# Altium schematic symbol library Schematic_lib.SchLib: 43 symbols
Pins are listed as number, name and electrical type; pins without a type are passive.

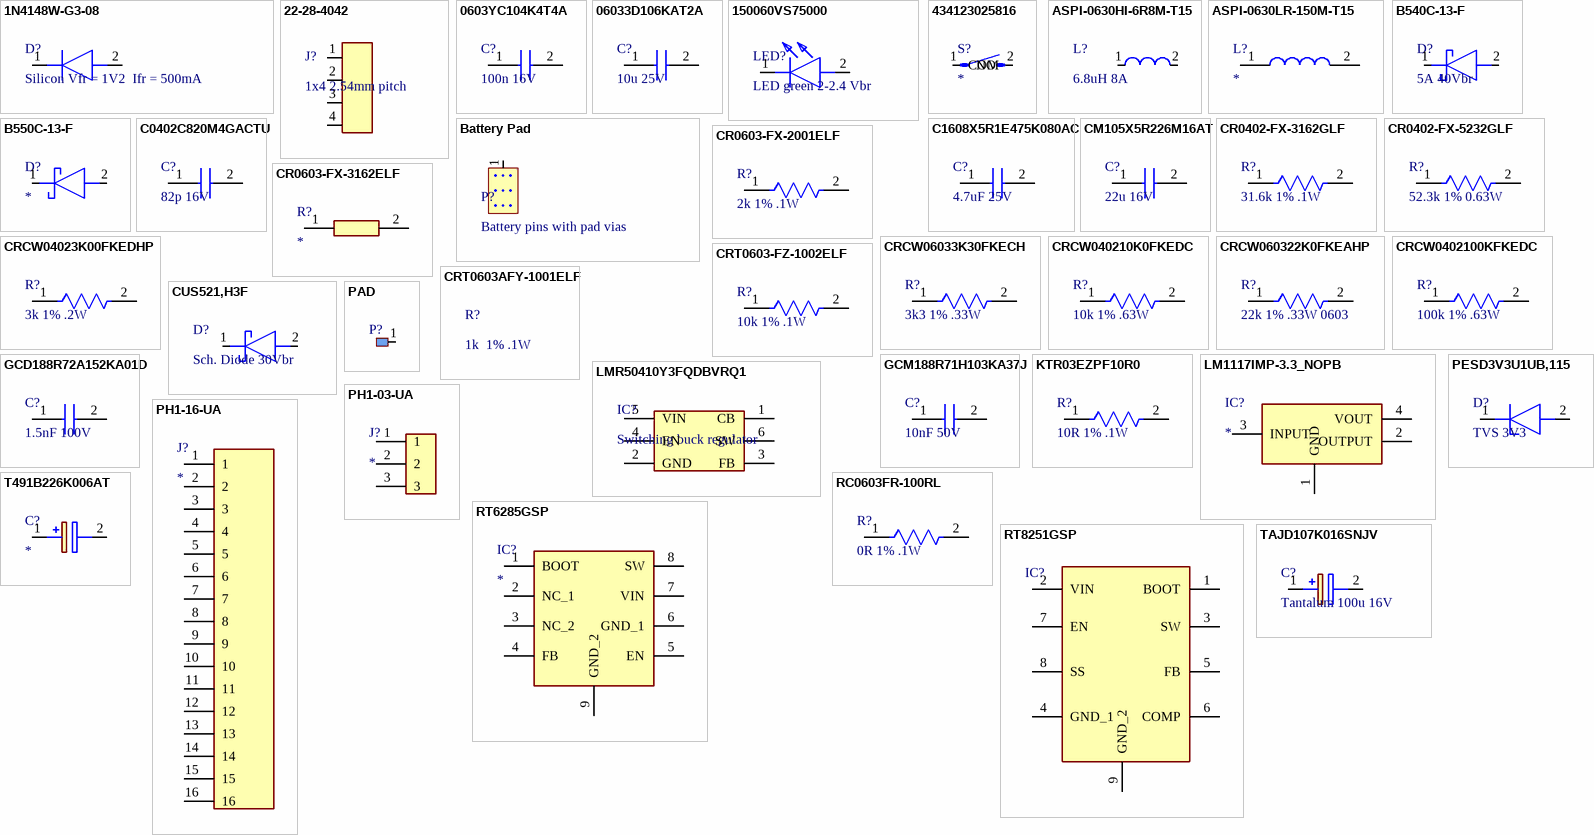
[diagram p0: symbols 1N4148W-G3-08 to TAJD107K016SNJV]

## 1N4148W-G3-08
designator D?, comment Silicon Vfr = 1V2  Ifr = 500mA
Diode - Silicon Vfr = 1V2, Vbr = 100V, Ifr = 500mA; Manufacturer_Name: Vishay; Manufacturer_Part_Number: 1N4148W-G3-08; Datasheet Link: https://componentsearchengine.com/Datasheets/1/1N4148W-G3-08.pdf; Height: 1.35mm; Mouser Part Number: 78-1N4148W-G3-08; Mouser Price/Stock: https://www.mouser.co.uk/ProductDetail/Vishay-Semiconductors/1N4148W-G3-08?qs=uS%252BVSIFnvp46StDBB15x4Q%3D%3D; Arrow Part Number: 1N4148W-G3-08; Arrow Price/Stock: https://www.arrow.com/en/products/1n4148w-g3-08/vishay
footprint SOD3716X135N
pins: 1 K, 2 A

## 22-28-4042
designator J?, comment 1x4 2.54mm pitch
Connector 1x4 / 2.54mm pitch / Through Hole straight; Manufacturer_Name: Molex; Datasheet Link: https://www.molex.com/content/dam/molex/molex-dot-com/products/automated/en-us/salesdrawingpdf/423/42375/022284042_sd.pdf?inline; Height: 10.03mm; Manufacturer_Part_Number: 22-28-4042; Mouser Part Number: 538-22-28-4042; Mouser Price/Stock: https://www.mouser.co.uk/ProductDetail/Molex/22-28-4042?qs=GAPJcf4kvdu6DqYOOlzdaQ%3D%3D
footprint HDRV4W66P0X254_1X4_1016X249X1003P
pins: 1, 2, 3, 4

## 0603YC104K4T4A
designator C?, comment 100n 16V
100nF 0603 16V; Manufacturer_Name: Kyocera AVX; Manufacturer_Part_Number: 0603YC104K4T4A; Datasheet Link: https://componentsearchengine.com/Datasheets/1/06031A100FAT2A.pdf; Height: 0.9mm; Mouser Part Number: 581-0603YC104K4T4A; Mouser Price/Stock: https://www.mouser.co.uk/ProductDetail/KYOCERA-AVX/0603YC104K4T4A?qs=Cej1j9ztgjEkPqVJkA4Bng%3D%3D; Arrow Part Number: 0603YC104K4T4A; Arrow Price/Stock: https://www.arrow.com/en/products/0603yc104k4t4a/avx
footprint CAPC1608X90N
pins: 1, 2

## 06033D106KAT2A
designator C?, comment 10u 25V
Cap. Ceramic 10uF 25V 10%; Manufacturer_Name: Kyocera AVX; Manufacturer_Part_Number: 06033D106KAT2A; Datasheet Link: https://componentsearchengine.com/Datasheets/1/06031A100FAT2A.pdf; Height: 0.9mm; Mouser Part Number: 581-06033D106KAT2A; Mouser Price/Stock: https://www.mouser.co.uk/ProductDetail/KYOCERA-AVX/06033D106KAT2A?qs=iLbezkQI%252BsjjhfqLL0ayMQ%3D%3D; Arrow Part Number: 06033D106KAT2A; Arrow Price/Stock: https://www.arrow.com/en/products/06033d106kat2a/avx?region=nac
footprint CAPC1608X90N
pins: 1, 2

## 150060VS75000
designator LED?, comment LED green 2-2.4 Vbr
Manufacturer_Name: Wurth Elektronik; Manufacturer_Part_Number: 150060VS75000; Datasheet Link: https://componentsearchengine.com/Datasheets/2/150060VS75000.pdf; Height: 0.8mm; Mouser Part Number: 710-150060VS75000; Mouser Price/Stock: https://www.mouser.co.uk/ProductDetail/Wurth-Elektronik/150060VS75000?qs=LlUlMxKIyB1Q1Bi5mQ%2FKLw%3D%3D
footprint LEDC1608X80N
pins: 1 K, 2 A

## 434123025816
designator S?
Switch; Manufacturer_Name: Wurth Elektronik; Manufacturer_Part_Number: 434123025816; Datasheet Link: https://www.we-online.com/catalog/datasheet/434123025816.pdf; Height: 2.65mm; Mouser Part Number: 710-434123025816; Mouser Price/Stock: https://www.mouser.co.uk/ProductDetail/Wurth-Elektronik/434123025816?qs=wr8lucFkNMVuWki%252Ba3C7oA%3D%3D
footprint 434123025816
pins: 1 COM, 2 NO

## ASPI-0630HI-6R8M-T15
designator L?, comment 6.8uH 8A
6.8uH 8A inductor; Manufacturer_Name: ABRACON; Manufacturer_Part_Number: ASPI-0630HI-6R8M-T15; Datasheet Link: https://abracon.com/Magnetics/power/ASPI-0630HI.pdf; Height: 3mm; Mouser Part Number: 815-ASPI0630HI6R8T15; Mouser Price/Stock: https://www.mouser.co.uk/ProductDetail/ABRACON/ASPI-0630HI-6R8M-T15?qs=bWAYEm3xoCZIcBmGvLdO%2Fw%3D%3D; Arrow Part Number: ASPI-0630HI-6R8M-T15; Arrow Price/Stock: https://www.arrow.com/en/products/aspi-0630hi-6r8m-t15/abracon?region=nac
footprint INDPM7266X300N
pins: 1, 2

## ASPI-0630LR-150M-T15
designator L?
Inductor; Manufacturer_Name: ABRACON; Manufacturer_Part_Number: ASPI-0630LR-150M-T15; Datasheet Link: https://abracon.com/Magnetics/power/ASPI-0630LR.pdf; Height: 3mm; Mouser Part Number: 815-ASPI0630LR150T15; Mouser Price/Stock: https://www.mouser.co.uk/ProductDetail/ABRACON/ASPI-0630LR-150M-T15?qs=bWAYEm3xoCYKmwZKzI2%2F7Q%3D%3D; Arrow Part Number: ASPI-0630LR-150M-T15; Arrow Price/Stock: https://www.arrow.com/en/products/aspi-0630lr-150m-t15/abracon?region=nac
footprint INDPM7266X300N
pins: 1, 2

## B540C-13-F
designator D?, comment 5A 40Vbr
5A 40Vbr Schotkky diode; Manufacturer_Name: Diodes Incorporated; Manufacturer_Part_Number: B540C-13-F; Datasheet Link: https://componentsearchengine.com/Datasheets/2/B540C-13-F.pdf; Height: 2.5mm; Mouser Part Number: 621-B540C-F; Mouser Price/Stock: https://www.mouser.co.uk/ProductDetail/Diodes-Incorporated/B540C-13-F?qs=v2dnQLbuoRZXHN%2FK4ft5%252Bg%3D%3D; Arrow Part Number: B540C-13-F; Arrow Price/Stock: https://www.arrow.com/en/products/b540c-13-f/diodes-incorporated?region=nac
footprint DIOM7959X250N
pins: 1 K, 2 A

## B550C-13-F
designator D?
Diode; Manufacturer_Name: Diodes Incorporated; Manufacturer_Part_Number: B550C-13-F; Datasheet Link: https://www.mouser.com/ds/2/115/ds13012-1142526.pdf; Height: 2.5mm; Mouser Part Number: 621-B550C-F; Mouser Price/Stock: https://www.mouser.co.uk/ProductDetail/Diodes-Incorporated/B550C-13-F?qs=UEP5Ic6BRave1jzuZzz4FA%3D%3D; Arrow Part Number: B550C-13-F; Arrow Price/Stock: https://www.arrow.com/en/products/b550c-13-f/diodes-incorporated?utm_currency=USD&region=nac
footprint DIOM7959X250N
pins: 1 K, 2 A

## Battery Pad
designator P?, comment Battery pins with pad vias
footprint Battery Pad
pins: 1

## C0402C820M4GACTU
designator C?, comment 82p 16V
82pF 16V; Manufacturer_Name: KEMET; Manufacturer_Part_Number: C0402C820M4GACTU; Datasheet Link: https://content.kemet.com/datasheets/KEM_C1002_X7R_SMD.pdf; Height: 0.55mm
footprint C0402C104J4RACTU
pins: 1, 2

## C1608X5R1E475K080AC
designator C?, comment 4.7uF 25V
4.7uF 25V 10% X5R; Manufacturer_Name: TDK; Manufacturer_Part_Number: C1608X5R1E475K080AC; Datasheet Link: https://product.tdk.com/info/en/catalog/datasheets/mlcc_commercial_midvoltage_en.pdf; Height: 0.8mm; Mouser Part Number: 810-C1608X5R1E475K; Mouser Price/Stock: https://www.mouser.co.uk/ProductDetail/TDK/C1608X5R1E475K080AC?qs=dfay7wIA1uHUGZGvnFtOyQ%3D%3D; Arrow Part Number: C1608X5R1E475K080AC; Arrow Price/Stock: https://www.arrow.com/en/products/c1608x5r1e475k080ac/tdk?region=nac
footprint CAPC1608X80N
pins: 1, 2

## CM105X5R226M16AT
designator C?, comment 22u 16V
22uF 16V 0603 ceramic capacitor; Manufacturer_Name: Kyocera AVX; Manufacturer_Part_Number: CM105X5R226M16AT; Datasheet Link: https://www.mouser.de/datasheet/2/40/Kyocera_AVX_Components_CT_Series_e-2933596.pdf; Height: 1mm; Mouser Part Number: 581-CM105X5R226M16AT; Mouser Price/Stock: https://www.mouser.co.uk/ProductDetail/KYOCERA-AVX/CM105X5R226M16AT?qs=MyNHzdoqoQKX6cMyStcF%2FA%3D%3D
footprint CAPC1608X100N
pins: 1, 2

## CR0402-FX-3162GLF
designator R?, comment 31.6k 1% .1W
31.6k 1% .1W 0402 resistor; Manufacturer_Name: Bourns; Manufacturer_Part_Number: CR0402-FX-3162GLF; Datasheet Link: https://www.bourns.com/pdfs/CR0402.pdf; Height: 0.4mm
footprint RESC1005X40N
pins: 1, 2

## CR0402-FX-5232GLF
designator R?, comment 52.3k 1% 0.63W
52.3k 1% 0402  0.63W resistor; Manufacturer_Name: Bourns; Manufacturer_Part_Number: CR0402-FX-5232GLF; Datasheet Link: https://www.bourns.com/pdfs/CR0402.pdf; Height: 0.4mm; Mouser Part Number: 652-CR0402FX5232GLF; Mouser Price/Stock: https://www.mouser.com/Search/Refine.aspx?Keyword=652-CR0402FX5232GLF
footprint RESC1005X40N
pins: 1, 2

## CR0603-FX-2001ELF
designator R?, comment 2k 1% .1W
2k resistor 1% 1/10W 0603; Manufacturer_Name: Bourns; Manufacturer_Part_Number: CR0603-FX-2001ELF; Datasheet Link: https://www.bourns.com/pdfs/chpreztr.pdf; Height: 0.55mm; Mouser Part Number: 652-CR0603-FX-2001LF; Mouser Price/Stock: https://www.mouser.co.uk/ProductDetail/Bourns/CR0603-FX-2001ELF?qs=zx2075yZkZINSjnn4ZdNIQ%3D%3D; Arrow Part Number: CR0603-FX-2001ELF; Arrow Price/Stock: https://www.arrow.com/en/products/cr0603-fx-2001elf/bourns?region=nac
footprint RESC1608X55N
pins: 1, 2

## CR0603-FX-3162ELF
designator R?
Resistor; Manufacturer_Name: Bourns; Manufacturer_Part_Number: CR0603-FX-3162ELF; Datasheet Link: https://www.bourns.com/pdfs/chpreztr.pdf; Height: 0.55mm; Mouser Part Number: 652-CR0603FX-3162ELF; Mouser Price/Stock: https://www.mouser.com/Search/Refine.aspx?Keyword=652-CR0603FX-3162ELF
footprint RESC1608X55N
pins: 1, 2

## CRCW04023K00FKEDHP
designator R?, comment 3k 1% .2W
3k 1% .2W resistor 0402 package; Manufacturer_Name: Vishay; Manufacturer_Part_Number: CRCW04023K00FKEDHP; Datasheet Link: http://www.vishay.com/docs/20035/dcrcwe3.pdf; Height: 0.4mm; Arrow Part Number: CRCW04023K00FKEDHP; Arrow Price/Stock: https://www.arrow.com/en/products/crcw04023k00fkedhp/vishay?region=nac
footprint RESC1005X40N
pins: 1, 2

## CRCW06033K30FKECH
designator R?, comment 3k3 1% .33W
3K3 1% 0603 330mW
footprint CRCW06033K30FKECH (resistor 3.3k 0604 1% 330mW)
pins: 1, 2

## CRCW040210K0FKEDC
designator R?, comment 10k 1% .63W
10k 1% 0402 .63W resistor; Manufacturer_Name: Vishay; Manufacturer_Part_Number: CRCW040210K0FKEDC; Datasheet Link: https://rs.componentsearchengine.com/Datasheets/2/CRCW040210K0FKEDC.pdf; Height: 0.35mm; Mouser Part Number: 71-CRCW040210K0FKEDC; Mouser Price/Stock: https://www.mouser.co.uk/ProductDetail/Vishay-Dale/CRCW040210K0FKEDC?qs=E3Y5ESvWgWPiNLcGzwCGPg%3D%3D; Arrow Part Number: CRCW040210K0FKEDC; Arrow Price/Stock: https://www.arrow.com/en/products/crcw040210k0fkedc/vishay?utm_currency=USD&region=nac
footprint RESC1005X40N
pins: 1, 2

## CRCW060322K0FKEAHP
designator R?, comment 22k 1% .33W 0603
22k 1% .33W 0603 resistor; Manufacturer_Name: Vishay; Manufacturer_Part_Number: CRCW060322K0FKEAHP; Datasheet Link: https://www.vishay.com/docs/20043/crcwhpe3.pdf; Height: 0.55mm; Mouser Part Number: 71-CRCW060322K0FKEAH; Mouser Price/Stock: https://www.mouser.co.uk/ProductDetail/Vishay-Dale/CRCW060322K0FKEAHP?qs=40TFAHZMFvftIYgKiSStSQ%3D%3D; Arrow Part Number: CRCW060322K0FKEAHP; Arrow Price/Stock: https://www.arrow.com/en/products/crcw060322k0fkeahp/vishay?region=nac
footprint RESC1608X55N
pins: 1, 2

## CRCW0402100KFKEDC
designator R?, comment 100k 1% .63W
100k 1% .63W 0402; Manufacturer_Name: Vishay; Manufacturer_Part_Number: CRCW0402100KFKEDC; Datasheet Link: http://www.vishay.com/docs/28773/crcwce3.pdf; Height: 0.35mm; Mouser Part Number: 71-CRCW0402100KFKEDC; Mouser Price/Stock: https://www.mouser.co.uk/ProductDetail/Vishay-Dale/CRCW0402100KFKEDC?qs=E3Y5ESvWgWPiKlL6PvtQMQ%3D%3D; Arrow Part Number: CRCW0402100KFKEDC; Arrow Price/Stock: https://www.arrow.com/en/products/crcw0402100kfkedc/vishay?utm_currency=USD&region=nac
footprint RESC1005X35N
pins: 1, 2

## CRT0603-FZ-1002ELF
designator R?, comment 10k 1% .1W
10k Resistor 1% 1/10W 0603; Manufacturer_Name: Bourns; Manufacturer_Part_Number: CRT0603-FZ-1002ELF; Datasheet Link: https://componentsearchengine.com/Datasheets/1/CRT0603-FZ-1002ELF.pdf; Height: 0.6mm; Mouser Part Number: 652-CRT0603FZ1002ELF; Mouser Price/Stock: https://www.mouser.com/Search/Refine.aspx?Keyword=652-CRT0603FZ1002ELF; Arrow Part Number: CRT0603-FZ-1002ELF; Arrow Price/Stock: https://www.arrow.com/en/products/crt0603-fz-1002elf/bourns
footprint RESC1608X60N
pins: 1, 2

## CRT0603AFY-1001ELF
designator R?, comment 1k  1% .1W
1k Resistor 1% 1/10W 0603; Manufacturer_Name: Bourns; Manufacturer_Part_Number: CRT0603AFY-1001ELF; Datasheet Link: https://www.bourns.com/docs/Product-Datasheets/CRT-A.pdf; Height: 0.55mm
footprint RESC1608X55N

## CUS521,H3F
designator D?, comment Sch. Diode 30Vbr
Manufacturer_Name: Toshiba; Manufacturer_Part_Number: CUS521,H3F; Datasheet Link: http://toshiba.semicon-storage.com/info/docget.jsp?did=8859&prodName=CUS521; Height: 1mm; Mouser Part Number: 757-CUS521H3F; Mouser Price/Stock: https://www.mouser.co.uk/ProductDetail/Toshiba/CUS521H3F?qs=OLJpxlzHOSRzvzvrwLzYuQ%3D%3D; Arrow Part Number: CUS521,H3F; Arrow Price/Stock: https://www.arrow.com/en/products/cus521h3f/toshiba?region=nac
footprint 1SS357TPH3F
pins: 1 K, 2 A

## GCD188R72A152KA01D
designator C?, comment 1.5nF 100V
1.5nF 100V ceramic; Manufacturer_Name: Murata Electronics; Manufacturer_Part_Number: GCD188R72A152KA01D; Datasheet Link: https://psearch.en.murata.com/capacitor/product/GCD188R72A152KA01%23.html; Height: 0.9mm; Mouser Part Number: 81-GCD188R72A152KA1D; Mouser Price/Stock: https://www.mouser.com/Search/Refine.aspx?Keyword=81-GCD188R72A152KA1D
footprint CAPC1608X90N
pins: 1, 2

## GCM188R71H103KA37J
designator C?, comment 10nF 50V
10nF 50V 0603; Manufacturer_Name: Murata Electronics; Manufacturer_Part_Number: GCM188R71H103KA37J; Datasheet Link: https://psearch.en.murata.com/capacitor/product/GCM188R71H103KA37%23.pdf; Height: 0.9mm; Mouser Part Number: 81-GCM188R71H103KA7J; Mouser Price/Stock: https://www.mouser.co.uk/ProductDetail/Murata-Electronics/GCM188R71H103KA37J?qs=N3Kl9KD794T3%2FxlXdF0Axg%3D%3D; Arrow Part Number: GCM188R71H103KA37J; Arrow Price/Stock: https://www.arrow.com/en/products/gcm188r71h103ka37j/murata-manufacturing?region=nac
footprint CAPC1608X90N
pins: 1, 2

## KTR03EZPF10R0
designator R?, comment 10R 1% .1W
10R 0603 1%; Manufacturer_Name: ROHM Semiconductor; Manufacturer_Part_Number: KTR03EZPF10R0; Datasheet Link: http://rohmfs.rohm.com/en/products/databook/datasheet/passive/resistor/chip_resistor/ktr.pdf; Height: 0.55mm; Mouser Part Number: 755-KTR03EZPF10R0; Mouser Price/Stock: https://www.mouser.co.uk/ProductDetail/ROHM-Semiconductor/KTR03EZPF10R0?qs=Z4wLSx0Y7o6aTc4EM6rn5w%3D%3D
footprint RESC1608X55N
pins: 1, 2

## LM1117IMP-3.3_NOPB
designator IC?
3V3 Linear regulator; Manufacturer_Name: Texas Instruments; Manufacturer_Part_Number: LM1117IMP-3.3/NOPB; Datasheet Link: https://www.ti.com/lit/ds/symlink/lm1117.pdf?ts=1607578196475&ref_url=https%253A%252F%252Fwww.google.com%252F; Height: 1.8mm; Mouser Part Number: 926-LM1117IMP3.3NOPB; Mouser Price/Stock: https://www.mouser.co.uk/ProductDetail/Texas-Instruments/LM1117IMP-3.3-NOPB?qs=X1J7HmVL2ZFbpN1TgOsjYQ%3D%3D; Arrow Part Number: LM1117IMP-3.3/NOPB; Arrow Price/Stock: https://www.arrow.com/en/products/lm1117imp-3.3nopb/texas-instruments?utm_currency=USD&region=nac; Supplier 1: Mouser; Supplier Part Number 1: 926-LM1117IMP3.3NOPB
footprint SOT230P700X180-4N
pins: 1 GND, 2 OUTPUT, 3 INPUT, 4 VOUT

## LMR50410Y3FQDBVRQ1
designator IC?, comment Switching buck regulator
Manufacturer_Name: Texas Instruments; Manufacturer_Part_Number: LMR50410Y3FQDBVRQ1; Datasheet Link: https://www.ti.com/lit/ds/symlink/lmr50410-q1.pdf?ts=1611309677669; Height: 1.45mm; Mouser Part Number: 595-R50410Y3FQDBVRQ1; Mouser Price/Stock: https://www.mouser.co.uk/ProductDetail/Texas-Instruments/LMR50410Y3FQDBVRQ1?qs=81r%252BiQLm7BTaIXwCgdOuiA%3D%3D; Arrow Part Number: LMR50410Y3FQDBVRQ1; Arrow Price/Stock: https://www.arrow.com/en/products/lmr50410y3fqdbvrq1/texas-instruments?utm_currency=USD&region=europe
footprint SOT95P280X145-6N
pins: 1 CB, 2 GND, 3 FB, 4 EN, 5 VIN, 6 SW

## PAD
designator P?, comment soldering pad  (value not drawn)
footprint SOLDERING PAD (self-made soldering pad footprint. This is my alternative to goldpin connectors.)
pins: 1

## PESD3V3U1UB,115
designator D?, comment TVS 3V3
TVS diode 3V3 0402; Manufacturer_Name: Nexperia; Manufacturer_Part_Number: PESD3V3U1UB,115; Datasheet Link: https://assets.nexperia.com/documents/data-sheet/PESD3V3U1UB.pdf; Height: 0.65mm; Mouser Part Number: 771-PESD3V3U1UB-T/R; Mouser Price/Stock: https://www.mouser.co.uk/ProductDetail/Nexperia/PESD3V3U1UB115?qs=LOCUfHb8d9uLhBP9O5uXGg%3D%3D; Arrow Part Number: PESD3V3U1UB,115; Arrow Price/Stock: https://www.arrow.com/en/products/pesd3v3u1ub115/nexperia?region=nac
footprint PESD3V3U1UB115
pins: 1 K, 2 A

## PH1-03-UA
designator J?
Connector; Manufacturer_Name: Adam Tech; Manufacturer_Part_Number: PH1-03-UA; Datasheet Link: https://datasheet.datasheetarchive.com/originals/distributors/Datasheets_SAMA/34c52fbb4019bb4b288b881302863af3.pdf; Height: 9.516mm; Mouser Part Number: 737-PH1-03-UA; Mouser Price/Stock: https://www.mouser.co.uk/ProductDetail/Adam-Tech/PH1-03-UA?qs=HoCaDK9Nz5cktq3WKneQTQ%3D%3D; Arrow Part Number: PH1-03-UA; Arrow Price/Stock: https://www.arrow.com/en/products/ph1-03-ua/adam-tech?region=nac
footprint HDRV3W64P0X254_1X3_762X250X952P
pins: 1, 2, 3

## PH1-16-UA
designator J?
Connector; Manufacturer_Name: Adam Tech; Manufacturer_Part_Number: PH1-16-UA; Datasheet Link: https://www.arrow.com/en/products/ph1-16-ua/adam-tech; Height: 8.469mm; Mouser Part Number: 737-PH1-16-UA; Mouser Price/Stock: https://www.mouser.co.uk/ProductDetail/Adam-Tech/PH1-16-UA?qs=HoCaDK9Nz5fBNONrMDWJKA%3D%3D; Arrow Part Number: PH1-16-UA; Arrow Price/Stock: null?region=nac
footprint HDRV16W64P0X254_1X16_4064X250X847P
pins: 1, 2, 3, 4, 5, 6, 7, 8, 9, 10, 11, 12, 13, 14, 15, 16

## RC0603FR-100RL
designator R?, comment 0R 1% .1W
0R 1% .1W 0603 resistor; Manufacturer_Name: YAGEO; Manufacturer_Part_Number: RC0603FR-100RL; Datasheet Link: https://www.yageo.com/upload/media/product/products/datasheet/rchip/PYu-RC_Group_51_RoHS_L_12.pdf; Height: 0.55mm; Mouser Part Number: 603-RC0603FR-100RL; Mouser Price/Stock: https://www.mouser.co.uk/ProductDetail/YAGEO/RC0603FR-100RL?qs=gY0y7AQI9SNjcfwXbqIKbg%3D%3D
footprint RESC1608X55N
pins: 1, 2

## RT6285GSP
designator IC?
Integrated Circuit; Manufacturer_Name: RICHTEK; Manufacturer_Part_Number: RT6285GSP; Datasheet Link: https://www.richtek.com/assets/product_file/RT6285/DS6285-00.pdf; Height: 1.753mm; Mouser Part Number: 835-RT6285GSP; Mouser Price/Stock: https://www.mouser.co.uk/ProductDetail/Richtek/RT6285GSP?qs=amGC7iS6iy9ag0U80PgEbw%3D%3D
footprint SOIC127P600X175-9N
pins: 1 BOOT, 2 NC_1, 3 NC_2, 4 FB, 5 EN, 6 GND_1, 7 VIN, 8 SW, 9 GND_2

## RT8251GSP
designator IC?
Switching buck regulator 5A; Manufacturer_Name: RICHTEK; Manufacturer_Part_Number: RT8251GSP; Datasheet Link: https://www.richtek.com/assets/product_file/RT8251/DS8251-04.pdf; Height: 1.753mm; Mouser Part Number: 835-RT8251GSP; Mouser Price/Stock: https://www.mouser.co.uk/ProductDetail/Richtek/RT8251GSP?qs=amGC7iS6iy8jENgjmtkz5g%3D%3D
footprint SOIC127P600X175-9N
pins: 1 BOOT, 2 VIN, 3 SW, 4 GND_1, 5 FB, 6 COMP, 7 EN, 8 SS, 9 GND_2

## T491B226K006AT
designator C?
Capacitor Polarised; Manufacturer_Name: KEMET; Manufacturer_Part_Number: T491B226K006AT; Datasheet Link: https://content.kemet.com/datasheets/KEM_T2005_T491.pdf; Height: 2.1mm; Mouser Part Number: 80-T491B226K006; Mouser Price/Stock: https://www.mouser.co.uk/ProductDetail/KEMET/T491B226K006AT?qs=jcsBHvPDQt8yMdJgz62biA%3D%3D
footprint T491B
pins: 1 +, 2 -

## TAJD107K016SNJV
designator C?, comment Tantalum 100u 16V
Cap. Tantalum 100uF 16V; Manufacturer_Name: Kyocera AVX; Manufacturer_Part_Number: TAJD107K016SNJV; Datasheet Link: http://datasheets.avx.com/TAJ.pdf; Height: 3.1mm; Mouser Part Number: 581-TAJD107K016SNJV; Mouser Price/Stock: https://www.mouser.co.uk/ProductDetail/AVX/TAJD107K016SNJV?qs=QtI0yD1FyOOTkhr%252BZ7mOPQ%3D%3D; Arrow Part Number: TAJD107K016SNJV; Arrow Price/Stock: https://www.arrow.com/en/products/tajd107k016snjv/avx
footprint CAPPM7344X310N
pins: 1 +, 2 -

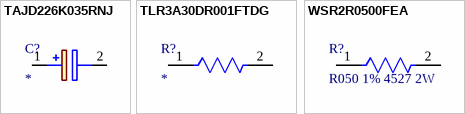
[diagram p1: symbols TAJD226K035RNJ to WSR2R0500FEA]

## TAJD226K035RNJ
designator C?
Capacitor Polarised; Manufacturer_Name: Kyocera AVX; Manufacturer_Part_Number: TAJD226K035RNJ; Datasheet Link: http://datasheets.avx.com/TAJ.pdf; Height: 3.1mm; Mouser Part Number: 581-TAJD226K035; Mouser Price/Stock: https://www.mouser.co.uk/ProductDetail/KYOCERA-AVX/TAJD226K035RNJ?qs=min0%252Bk%2FlUAYXcSj7IePvig%3D%3D; Arrow Part Number: TAJD226K035RNJ; Arrow Price/Stock: https://www.arrow.com/en/products/tajd226k035rnj/avx?region=europe
footprint CAPPM7344X310N
pins: 1 +, 2 -

## TLR3A30DR001FTDG
designator R?
R001 1% 3W 2512; Manufacturer_Name: TE Connectivity; Manufacturer_Part_Number: TLR3A30DR001FTDG; Datasheet Link: https://www.te.com/commerce/DocumentDelivery/DDEController?Action=srchrtrv&DocNm=8-1773459-4_ELEVATOR_ESCALATOR_SOLUTIONS&DocType=Data%20Sheet&DocLang=English&PartCntxt=1879378-2&DocFormat=pdf; Height: 0.8mm; Mouser Part Number: 279-TLR3A30DR001FTDG; Mouser Price/Stock: https://www.mouser.co.uk/ProductDetail/TE-Connectivity-Holsworthy/TLR3A30DR001FTDG?qs=s1WWODT2SXXgi9KRS%2FP%252BSA%3D%3D; Arrow Part Number: TLR3A30DR001FTDG; Arrow Price/Stock: https://www.arrow.com/en/products/tlr3a30dr001ftdg/te-connectivity
footprint RESC6430X80N
pins: 1, 2

## WSR2R0500FEA
designator R?, comment R050 1% 4527 2W
Manufacturer_Name: Vishay; Manufacturer_Part_Number: WSR2R0500FEA; Datasheet Link: http://www.mouser.com/ds/2/427/wsr-239755.pdf; Height: 2.537mm; Mouser Part Number: 71-WSR2R0500FEA; Mouser Price/Stock: https://www.mouser.com/Search/Refine.aspx?Keyword=71-WSR2R0500FEA; Arrow Part Number: WSR2R0500FEA; Arrow Price/Stock: https://www.arrow.com/en/products/wsr2r0500fea/vishay
footprint WSR2R0500FEA
pins: 1, 2